# Altium footprint library TO.PcbLib: 6 footprints
Each footprint in its own frame and in the unit in brackets; x right, y up, seen from the top. Pads: shape width x height; smd on the part's side, far side on the other; paste and mask are expansions set on the pad; w line width, h text height; cw(c..) or ccw(c..) is an arc to the next point about the centre after c.
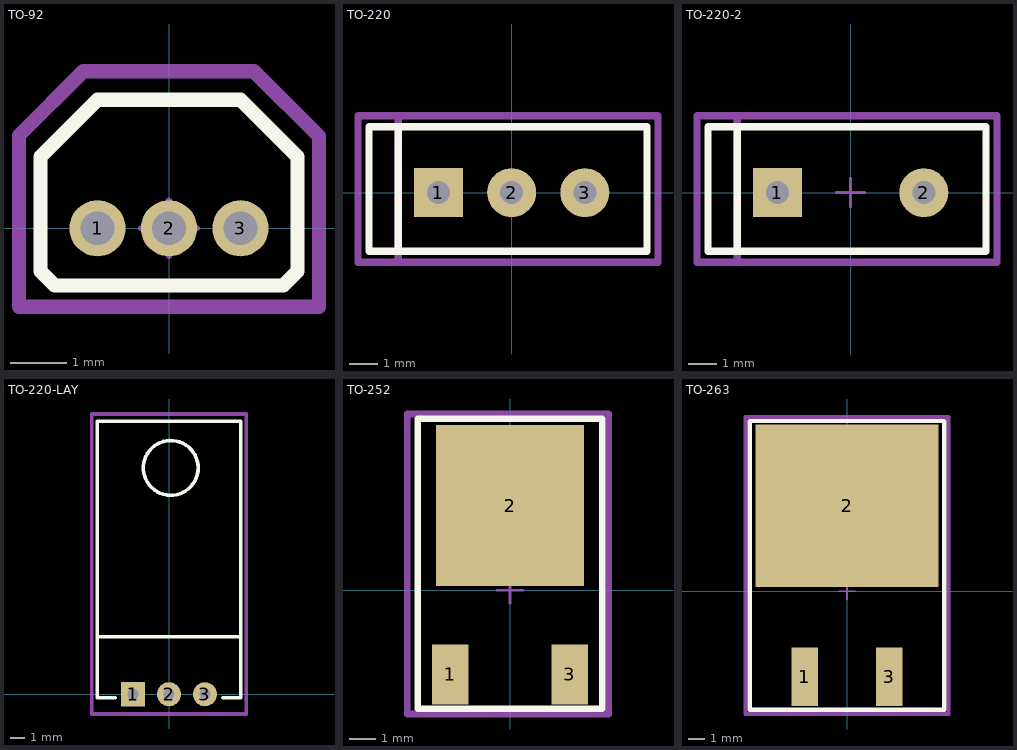
[diagram p0: the footprints below, top view; thin cyan lines are the x and y axes]

## TO-92 [mm]
pads (3):
  round 1 hole 0.6: 1(-1.27,0) 2(0,0) 3(1.27,0)
Top Overlay:
  lines w0.254: -2.286,-0.762 -2.032,-1.016 2.032,-1.016 2.286,-0.762 2.286,1.27 1.27,2.286 -1.27,2.286 -2.286,1.27 -2.286,-0.762
Top Assembly (Mech13):
  lines w0.1: -0.5,0 0.5,0 ; 0,-0.5 0,0.5
  lines w0.254: -2.667,-1.397 1.524,-1.397 2.667,-1.397 2.667,1.636 1.509,2.794 0.762,2.794 -1.524,2.794 -2.667,1.651 -2.667,-1.397
Top Courtyard (Mech15):
  lines w0.254: -2.667,-1.397 -2.667,1.651 -1.524,2.794 0.762,2.794 1.509,2.794 2.667,1.636 2.667,-1.397 1.524,-1.397 -2.667,-1.397
3D body "TO-92B.step": height 5.32, standoff -3.14, extent -2.286,-1.016 2.286,2.286

## TO-220 [mm]
pads (3):
  rect 1.7x1.7 hole 0.8: 1(-2.54,0)
  round 1.7 hole 0.8: 2(0,0) 3(2.54,0)
Top Overlay:
  lines w0.254: -3.937,-2.032 4.699,-2.032 4.699,2.286 -3.937,2.286 ; -3.937,-2.032 -3.937,2.286 ; -3.937,-2.032 -4.953,-2.032 -4.953,2.286 -3.937,2.286
Top Assembly (Mech13):
  lines w0.1: -0.5,0 0.5,0 ; 0,-0.5 0,0.5
  lines w0.254: -3.937,2.667 -3.937,-2.413 ; -3.937,-2.413 -5.334,-2.413 -5.334,2.667 -4.318,2.667 5.08,2.667 5.08,-2.413 -3.937,-2.413
Top Courtyard (Mech15):
  lines w0.254: -5.334,-2.413 -5.334,2.667 -4.318,2.667 5.08,2.667 5.08,-2.413 -3.937,-2.413 -5.334,-2.413
3D body "TO-220-1.step": height 26.8, standoff -1.98, extent -5.077,-2.159 4.823,2.341

## TO-220-2 [mm]
pads (2):
  rect 1.7x1.7 hole 0.8: 1(-2.54,0)
  round 1.7 hole 0.8: 2(2.54,0)
Top Overlay:
  lines w0.254: -3.937,-2.032 4.699,-2.032 4.699,2.286 -3.937,2.286 ; -3.937,-2.032 -3.937,2.286 ; -3.937,-2.032 -4.953,-2.032 -4.953,2.286 -3.937,2.286
Top Assembly (Mech13):
  lines w0.1: -0.5,0 0.5,0 ; 0,-0.5 0,0.5
  lines w0.254: -3.937,2.667 -3.937,-2.413 ; -3.937,-2.413 5.08,-2.413 5.08,2.667 -4.318,2.667 -5.334,2.667 -5.334,-2.413 -3.937,-2.413
Top Courtyard (Mech15):
  lines w0.254: -5.334,-2.413 -5.334,2.667 -4.318,2.667 5.08,2.667 5.08,-2.413 -3.937,-2.413 -5.334,-2.413
3D body "TO 220-2.step": height 18.3, standoff -10.08, extent -4.826,-2.286 4.826,2.214

## TO-220-LAY [mm]
pads (3):
  rect 1.7x1.7 hole 0.8: 1(-2.54,0)
  round 1.7 hole 0.8: 2(0,0) 3(2.54,0)
Top Overlay:
  circle w0.254: c0.127,16.002 r1.939
  lines w0.254: -5.08,4.064 5.08,4.064 ; -3.81,-0.254 -5.08,-0.254 -5.08,19.304 5.08,19.304 5.08,-0.254 3.81,-0.254
Top Assembly (Mech13):
  lines w0.1: -0.5,0 0.5,0 ; 0,-0.5 0,0.5
  lines w0.254: -5.461,-1.397 4.191,-1.397 5.461,-1.397 5.461,19.812 -3.175,19.812 -5.461,19.812 -5.461,-1.397
Top Courtyard (Mech15):
  lines w0.254: -5.461,-1.397 -5.461,19.812 -3.175,19.812 5.461,19.812 5.461,-1.397 4.191,-1.397 -5.461,-1.397
3D body "TO-220.step": height 5.2, standoff -2, extent -5.08,-0.347 5.08,19.143

## TO-252 [mm]
pads (3):
  rect 1.4x2.3 smd mask+0.05: 1(-2.3,-3.25) 3(2.3,-3.25)
  rect 5.7x6.2 smd mask+0.05: 2(0,3.25)
Top Overlay:
  lines w0.254: 3.556,-0.45 3.556,6.604 -3.556,6.604 -3.556,-4.572 3.35,-4.572 3.556,-4.572 3.556,-0.127
Top Assembly (Mech13):
  lines w0.1: -0.5,0 0.5,0 ; 0,-0.5 0,0.5
  lines w0.254: -3.951,-4.774 -3.951,6.783 3.796,6.783 3.796,-4.774 -3.951,-4.774
Top Courtyard (Mech15):
  lines w0.254: -3.951,-4.774 -3.951,6.783 3.796,6.783 3.796,-4.774 -3.951,-4.774
3D body "to-252.stp": height 2.3, standoff -0.01, extent -3.292,-4.036 3.288,5.664

## TO-263 [mm]
pads (3):
  rect 1.6x3.5 smd: 1(-2.54,-5.138) 3(2.54,-5.138)
  rect 11x9.75 smd: 2(0,5.138)
Top Overlay:
  lines w0.254: -5.842,-7.112 5.842,-7.112 5.842,10.218 -5.842,10.218 -5.842,-7.112
Top Assembly (Mech13):
  lines w0.1: -0.5,0 0.5,0 ; 0,-0.5 0,0.5
  lines w0.254: -6.098,-7.374 6.091,-7.374 6.091,-2.604 6.091,10.457 -5.065,10.457 -6.098,10.457 -6.098,-7.374
Top Courtyard (Mech15):
  lines w0.254: -6.098,-7.374 6.091,-7.374 6.091,-2.604 6.091,10.457 -5.065,10.457 -6.098,10.457 -6.098,-7.374
3D body "TO263-3S.STEP": height 4.78, standoff -0.02, extent -5,-6.202 5,9.468